# Altium footprint library CTDO1813PF-223HC.PcbLib: 1 footprints
Each footprint in its own frame and in the unit in brackets; x right, y up, seen from the top. Pads: shape width x height; smd on the part's side, far side on the other; paste and mask are expansions set on the pad; w line width, h text height; cw(c..) or ccw(c..) is an arc to the next point about the centre after c.
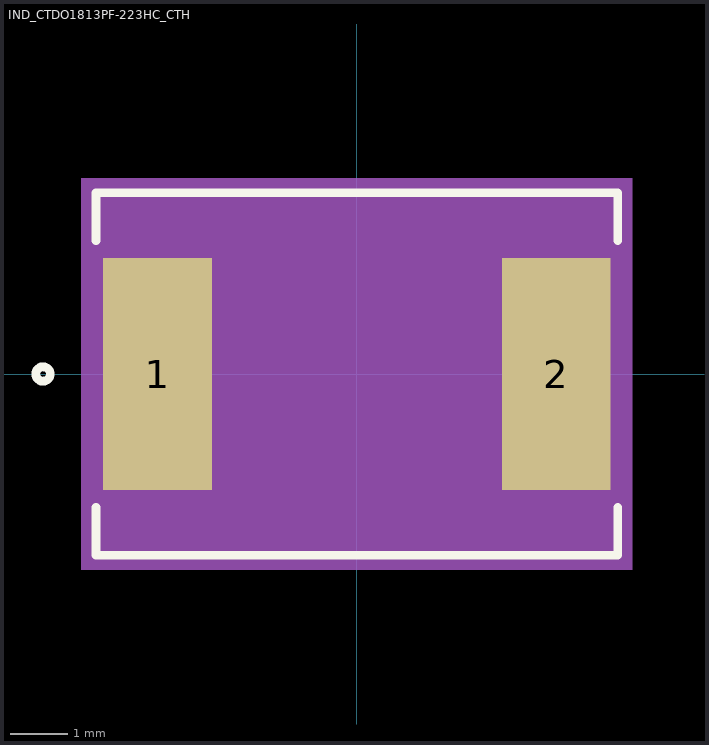
[diagram p0: the footprint, top view; thin cyan lines are the x and y axes]

## IND_CTDO1813PF-223HC_CTH [mil]
pads (2):
  rect 75x160 smd paste-37.5 mask+0: 1(-137.6,0) 2(137.6,0)
Top Overlay:
  circle w6: c-216.6,0 r5
  lines w6: -180,-92.15 -180,-125 180,-125 180,-92.15 ; -180,92.15 -180,125 180,125 180,92.15
Mechanical 5:
  region: 190.1,-135 -190.1,-135 -190.1,135 190.1,135
Mechanical 13:
  circle w0: c-100.1,0 r3
  lines w0: -12,120 ccw(c0,120) 12,120
  lines w1: -175,-120 175,-120 175,120 -175,120 -175,-120
Mechanical 15:
  region: -185,-90 -185.1,-90 -185.1,90 -185,90 -185,130 185,130 185,90 185.1,90 185.1,-90 185,-90 185,-130 -185,-130
  lines w6: -185.1,-90 -185.1,90 -185,90 -185,130 185,130 185,90 185.1,90 185.1,-90 185,-90 185,-130 -185,-130 -185,-90 -185.1,-90
3D body "IND_CTDO1813PF-223HC_CTH.step": height 197.09, standoff 0, extent -175,-120 175,120